# EAGLE library part HT12E (library Holtek)
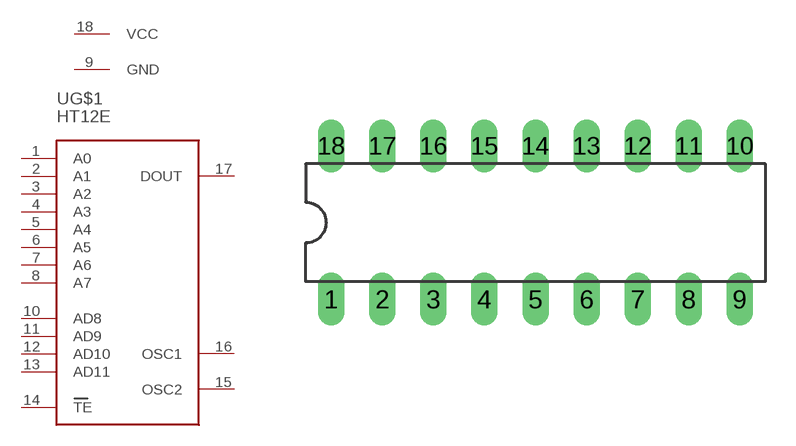
[diagram p0: symbol with the pads of DIL18; footprint DIL18]

Designator prefix -; gates G$1=HT12E G$2=GND G$3=VCC

## HT12E  [DIL18]
1  G$1:A0  in
2  G$1:A1  in
3  G$1:A2  in
4  G$1:A3  in
5  G$1:A4  in
6  G$1:A5  in
7  G$1:A6  in
8  G$1:A7  in
9  G$2:GND  pwr
10  G$1:AD8  in
11  G$1:AD9  in
12  G$1:AD10  in
13  G$1:AD11  in
14  G$1:TE  in
15  G$1:OSC2  in
16  G$1:OSC1  in
17  G$1:DOUT  out
18  G$3:VCC  pwr

## Footprint DIL18 (pad centres in mm)
Dual In Line Package
drill 0.813 long: 1 -10.16,-3.81; 2 -7.62,-3.81; 3 -5.08,-3.81; 4 -2.54,-3.81; 5 0,-3.81; 6 2.54,-3.81; 7 5.08,-3.81; 8 7.62,-3.81; 9 10.16,-3.81; 10 10.16,3.81; 11 7.62,3.81; 12 5.08,3.81; 13 2.54,3.81; 14 0,3.81; 15 -2.54,3.81; 16 -5.08,3.81; 17 -7.62,3.81; 18 -10.16,3.81